# EAGLE library part SN74AHCT32N (library SN74AHCT32N)
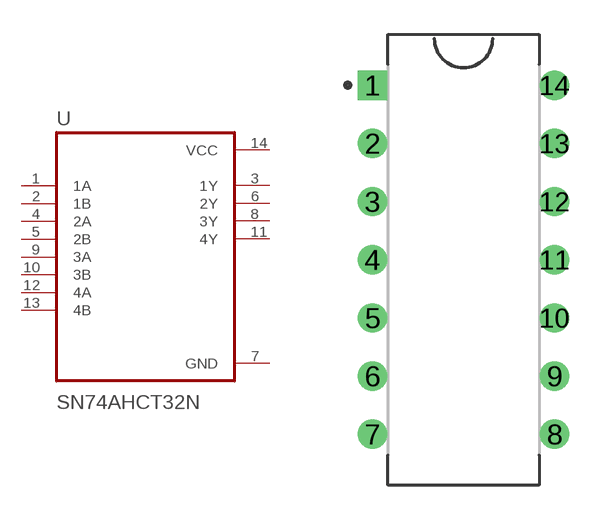
[diagram p0: symbol with the pads of DIP794W45P254L1969H508Q14; footprint DIP794W45P254L1969H508Q14]

Designator prefix U

## SN74AHCT32N (DESCRIPTION: 4-ch, 2-input, 4.5-V to 5.5-V OR gates with TTL-compatible CMOS inputs; DIGI-KEY_PART_NUMBER: 2156-SN74AHCT32N-ND; MF: Texas Instruments; MP: SN74AHCT32N; PACKAGE: PDIP-14 Texas Instruments; PURCHASE-URL: https://pricing.snapeda.com/search/part/SN74AHCT32N/?ref=eda)  [DIP794W45P254L1969H508Q14]
1  1A  in
2  1B  in
3  1Y  out
4  2A  in
5  2B  in
6  2Y  out
7  GND  pwr
8  3Y  out
9  3A  in
10  3B  in
11  4Y  out
12  4A  in
13  4B  in
14  VCC  pwr

## Footprint DIP794W45P254L1969H508Q14 (pad centres in mm)
drill 0.77 pad 1.17 square: 1 -3.97,7.62
drill 0.77 pad 1.17: 2 -3.97,5.08; 3 -3.97,2.54; 4 -3.97,0; 5 -3.97,-2.54; 6 -3.97,-5.08; 7 -3.97,-7.62; 8 3.97,-7.62; 9 3.97,-5.08; 10 3.97,-2.54; 11 3.97,0; 12 3.97,2.54; 13 3.97,5.08; 14 3.97,7.62